# EAGLE library part WE-FB_EP13_SCH1 (library Wurth_Power Magnetics_WE-FB)
WE-FB Flyback Transformer suitable for LT3573/ LT3574/ LT3575/ LT3748 Characteristics easy design in solution less external components needed small board space low cost no optocoupler needed! long term reliability voltage control no aging same external parts for different output voltages easy design of custom power supply due to standard circuit and change of transformers and two components for feedback loop Isolation voltage up to 2.5 kV Applications Isolated power design Sensor interfaces Isolated telecom converters Power over Ethernet The "VALUE"shown for symbol and packaging is Ooutput Voltage 1 Output Current 1 <https://katalog.we-online.com/media/images/v2/o35283v209%20Family_we-fb_LT%20Kits_gruppe.jpg> Details see: https://katalog.we-online.com/en/pbs/WE-FB Updated by Yingchun,Shan 2019-08-27 2019 Wurth Elektronik
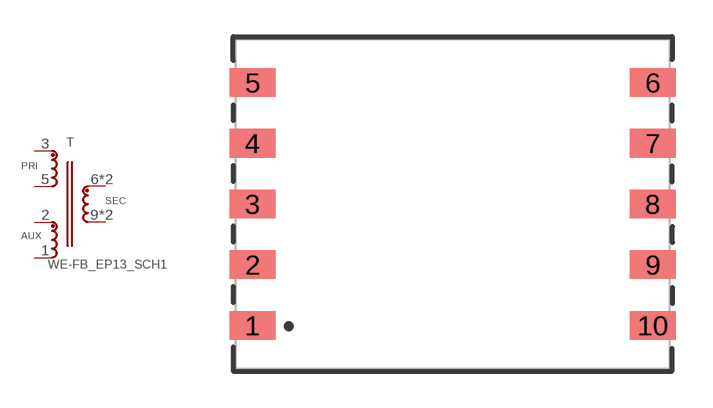
[diagram p11: symbol with the pads of WE-FB_EP13_P16.36; footprint WE-FB_EP13_P16.36]

Designator prefix T

## WE-FB_EP13_SCH1_750311422 (DATASHEET-URL: https://katalog.we-online.com/pbs/datasheet/750311422.pdf; ISAT: 3.3A; L: 50uH; LSMIN: 0.6uH; N: 5:1; PART-NUMBER: 750311422; VALUE: 5V 4A; VI: 36V(DC); VT: 1500V(AC)), WE-FB_EP13_SCH1_750311423 (DATASHEET-URL: https://katalog.we-online.com/pbs/datasheet/750311423.pdf; ISAT: 3.85A; L: 50uH; LSMIN: 0.6uH; N: 4:1; PART-NUMBER: 750311423; VALUE: 5V 4A; VI: 36V(DC); VT: 1500V(AC)), WE-FB_EP13_SCH1_750311424 (DATASHEET-URL: https://katalog.we-online.com/pbs/datasheet/750311424.pdf; ISAT: 2.4A; L: 100uH; LSMIN: 0.9uH; N: 3:1; PART-NUMBER: 750311424; VALUE: 12V 1A; VI: 36V(DC); VT: 1500V(AC)), WE-FB_EP13_SCH1_750311439 (DATASHEET-URL: https://katalog.we-online.com/pbs/datasheet/750311439.pdf; ISAT: 2.8A; L: 37uH; LSMIN: 0.75uH; N: 2:1; PART-NUMBER: 750311439; VALUE: 12V 2.1A; VI: 37-57V(DC); VT: 1500V(AC)), WE-FB_EP13_SCH1_750311456 (DATASHEET-URL: https://katalog.we-online.com/pbs/datasheet/750311456.pdf; ISAT: 2.4A; L: 100uH; LSMIN: 0.9uH; N: 3:1; PART-NUMBER: 750311456; VALUE: 12V 1A; VI: 36V(DC); VT: 1500V(AC)), WE-FB_EP13_SCH1_750311457 (DATASHEET-URL: https://katalog.we-online.com/pbs/datasheet/750311457.pdf; ISAT: 3.7A; L: 50uH; LSMIN: 0.6uH; N: 4:1; PART-NUMBER: 750311457; VALUE: 5V 4A; VI: 36V(DC); VT: 1500V(AC)), WE-FB_EP13_SCH1_750311458 (DATASHEET-URL: https://katalog.we-online.com/pbs/datasheet/750311458.pdf; ISAT: 5A; L: 15uH; LSMIN: 0.175uH; N: 3:1; PART-NUMBER: 750311458; VALUE: 3.3V 4A; VI: 36V(DC); VT: 1500V(AC)), WE-FB_EP13_SCH1_750311486 (DATASHEET-URL: https://katalog.we-online.com/pbs/datasheet/750311486.pdf; ISAT: 2A; L: 100uH; LSMIN: 4.5uH; N: 1:10:10; PART-NUMBER: 750311486; VALUE: 200V 0.002A; VI: 12V(DC); VO2: 200V; VT: 1500V(AC)), WE-FB_EP13_SCH1_750311564 (DATASHEET-URL: https://katalog.we-online.com/pbs/datasheet/750311564.pdf; ISAT: 8A; L: 9.07uH; LSMIN: 0.12uH; N: 3:1; PART-NUMBER: 750311564; VALUE: 5V 3A; VI: 10-40V(DC); VT: 1500V(AC)), WE-FB_EP13_SCH1_750311624 (DATASHEET-URL: https://katalog.we-online.com/pbs/datasheet/750311624.pdf; ISAT: 8A; L: 9uH; LSMIN: 0.18uH; N: 1.5:1; PART-NUMBER: 750311624; VALUE: 15V 1A; VI: 10-40V(DC); VT: 1500V(AC)), WE-FB_EP13_SCH1_750311625 (DATASHEET-URL: https://katalog.we-online.com/pbs/datasheet/750311625.pdf; ISAT: 8A; L: 9uH; LSMIN: 0.35uH; N: 4:1; PART-NUMBER: 750311625; VALUE: 3.3V 4A; VI: 10-40V(DC); VT: 1500V(AC)), WE-FB_EP13_SCH1_750311688 (DATASHEET-URL: https://katalog.we-online.com/pbs/datasheet/750311688.pdf; ISAT: 3.1A; L: 50uH; LSMIN: 0.6uH; N: 5:1; PART-NUMBER: 750311688; VALUE: 5V 4A; VI: 36V(DC); VT: 1500V(AC)), WE-FB_EP13_SCH1_750311689 (DATASHEET-URL: https://katalog.we-online.com/pbs/datasheet/750311689.pdf; ISAT: 3.7A; L: 50uH; LSMIN: 0.6uH; N: 4:1; PART-NUMBER: 750311689; VALUE: 5V 4A; VI: 36V(DC); VT: 1500V(AC))  [WE-FB_EP13_P16.36]
1  4  pas
2  3  pas
3  1  pas
5  2  pas
6  6  pas
7  6  pas
9  5  pas
10  5  pas

## Footprint WE-FB_EP13_P16.36 (pad centres in mm)
WE-FB Flyback Transformer suitable for LT3573/ LT3574/ LT3575/ LT3748 Size: EP13 SMD 10Pin ,Pitch of PAD =16.36
smd 1.88 x 1.17: 1 -8.18,-4.96; 2 -8.18,-2.48; 3 -8.18,0; 4 -8.18,2.48; 5 -8.18,4.96; 6 8.18,4.96; 7 8.18,2.48; 8 8.18,0; 9 8.18,-2.48; 10 8.18,-4.96